# Altium schematic symbol library Switches_Buttons_Ext.SchLib: 5 symbols
Pins are listed as number, name and electrical type; pins without a type are passive.

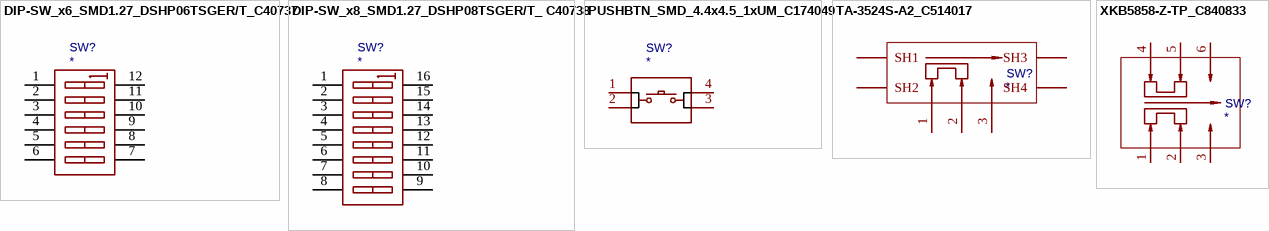
[diagram p0: symbols DIP-SW_x6_SMD1.27_DSHP06TSGER/T_C40737 to XKB5858-Z-TP_C840833]

## DIP-SW_x6_SMD1.27_DSHP06TSGER/T_C40737
designator SW?
6 DIP-Switch SMD C40737 / SPST 6 1.27mm, Half Slide (Standard) Black SMD DIP Switches RoHS DSHP06TSGER SHP06TSGET; BOM_Manufacturer: KE; SMT Type: Extend; Contributor: LCSC; BOM_Supplier: LCSC; BOM_Manufacturer Part: DSHP06TSGER; image: //image.lceda.cn/szlcsc/C40737.jpg; BOM_Supplier Part: C40737; BOM_LCSC Assembly: Yes; spicePre: S; spiceSymbolName: DSHP06TSGER; PickAndPlace: SMD
footprint SW-SMD_12P-L9.3-W5.4-P1.27-LS8.4
footprint TE_DIPSW6_1571983-9
pins: 1 A1, 2 A2, 3 A3, 4 A4, 5 A5, 6 A6, 7 B6, 8 B5, 9 B4, 10 B3, 11 B2, 12 B1

## DIP-SW_x8_SMD1.27_DSHP08TSGER/T_ C40738
designator SW?
DIP-Switch 8pos SMD - SPST 8 1.27mm, Half Slide (Standard) Black SMD DIP Switches RoHS16Pin 1.27mm  DSHP08TSGET C40738; BOM_Manufacturer: KE; BOM_Manufacturer Part: DSHP08TSGER; SMT Type: Extend; BOM_Supplier: LCSC; image: //image.lceda.cn/szlcsc/C40738.jpg; BOM_Supplier Part: C40738; BOM_LCSC Assembly: Yes; spicePre: S; spiceSymbolName: DSHP08TSGER
footprint DIP-SW_8P_TE_Connectivity_1-1571983-1_MFG
footprint SW-SMD_16P_DSHP08TSGET
pins: 1 A1, 2 A2, 3 A3, 4 A4, 5 A5, 6 A6, 7 A7, 8 A8, 9 B8, 10 B7, 11 B6, 12 B5, 13 B4, 14 B3, 15 B2, 16 B1

## PUSHBTN_SMD_4.4x4.5_1xUM_C174049
designator SW?
SMD Tactile Switches RoHS; BOM_Manufacturer: BOOMELE(Boom Precision Elec); BOM_Manufacturer Part: C174049; Contributor: LCSC; SMT Type: Extend; BOM_Supplier: LCSC; BOM_Supplier Part: C174049; BOM_LCSC Assembly: Yes; spicePre: S; spiceSymbolName: C174049
footprint SW-SMD_4P-L4.5-W4.5-P3.00-LS6.8
pins: 1, 2, 3, 4

## TA-3524S-A2_C514017
designator SW?
SMD-Schibeschater - MD,6.6x2.7x2.0mm Toggle Switches RoHS; BOM_Manufacturer: Yuandi; BOM_Manufacturer Part: TA-3524S-A2; Contributor: LCSC; SMT Type: Extend; PickAndPlace: SMD; BOM_Supplier: LCSC; BOM_Supplier Part: C514017; BOM_LCSC Assembly: Yes; spicePre: S
footprint SW-SMD_3P-L6.6-W2.7-P1.50-EH3.0
pins: 1, 2, 3, 4 SH1, 5 SH2, 6 SH3, 7 SH4

## XKB5858-Z-TP_C840833
designator SW?
SMD-Switch with Latch - DPDT 100mA Surface MountType LATCHING 160±80gf 5.80mm x 5.80mm 10.00mm SMD Electrical Switches RoHS; BOM_Manufacturer: XKB Connectivity; BOM_Manufacturer Part: XKB5858-Z-TP; Contributor: LCSC; SMT Type: Extend; BOM_Supplier: LCSC; BOM_Supplier Part: C840833; BOM_LCSC Assembly: Yes; spicePre: S; spiceSymbolName: XKB5858-Z-TP_C840833; PickAndPlace: SMD
footprint SW-SMD_6P-L5.8-W5.8-P2.00-LS8.3-TL
footprint SW-SMD_6P-L5.8-W5.8-P2.00-LS8.3-TL _3d
pins: 1, 2, 3, 4, 5, 6